# Altium footprint library hsbest3.PcbLib: 363 footprints (part 2 of 23)
Each footprint in its own frame and in the unit in brackets; x right, y up, seen from the top. Pads: shape width x height; smd on the part's side, far side on the other; paste and mask are expansions set on the pad; w line width, h text height; cw(c..) or ccw(c..) is an arc to the next point about the centre after c.
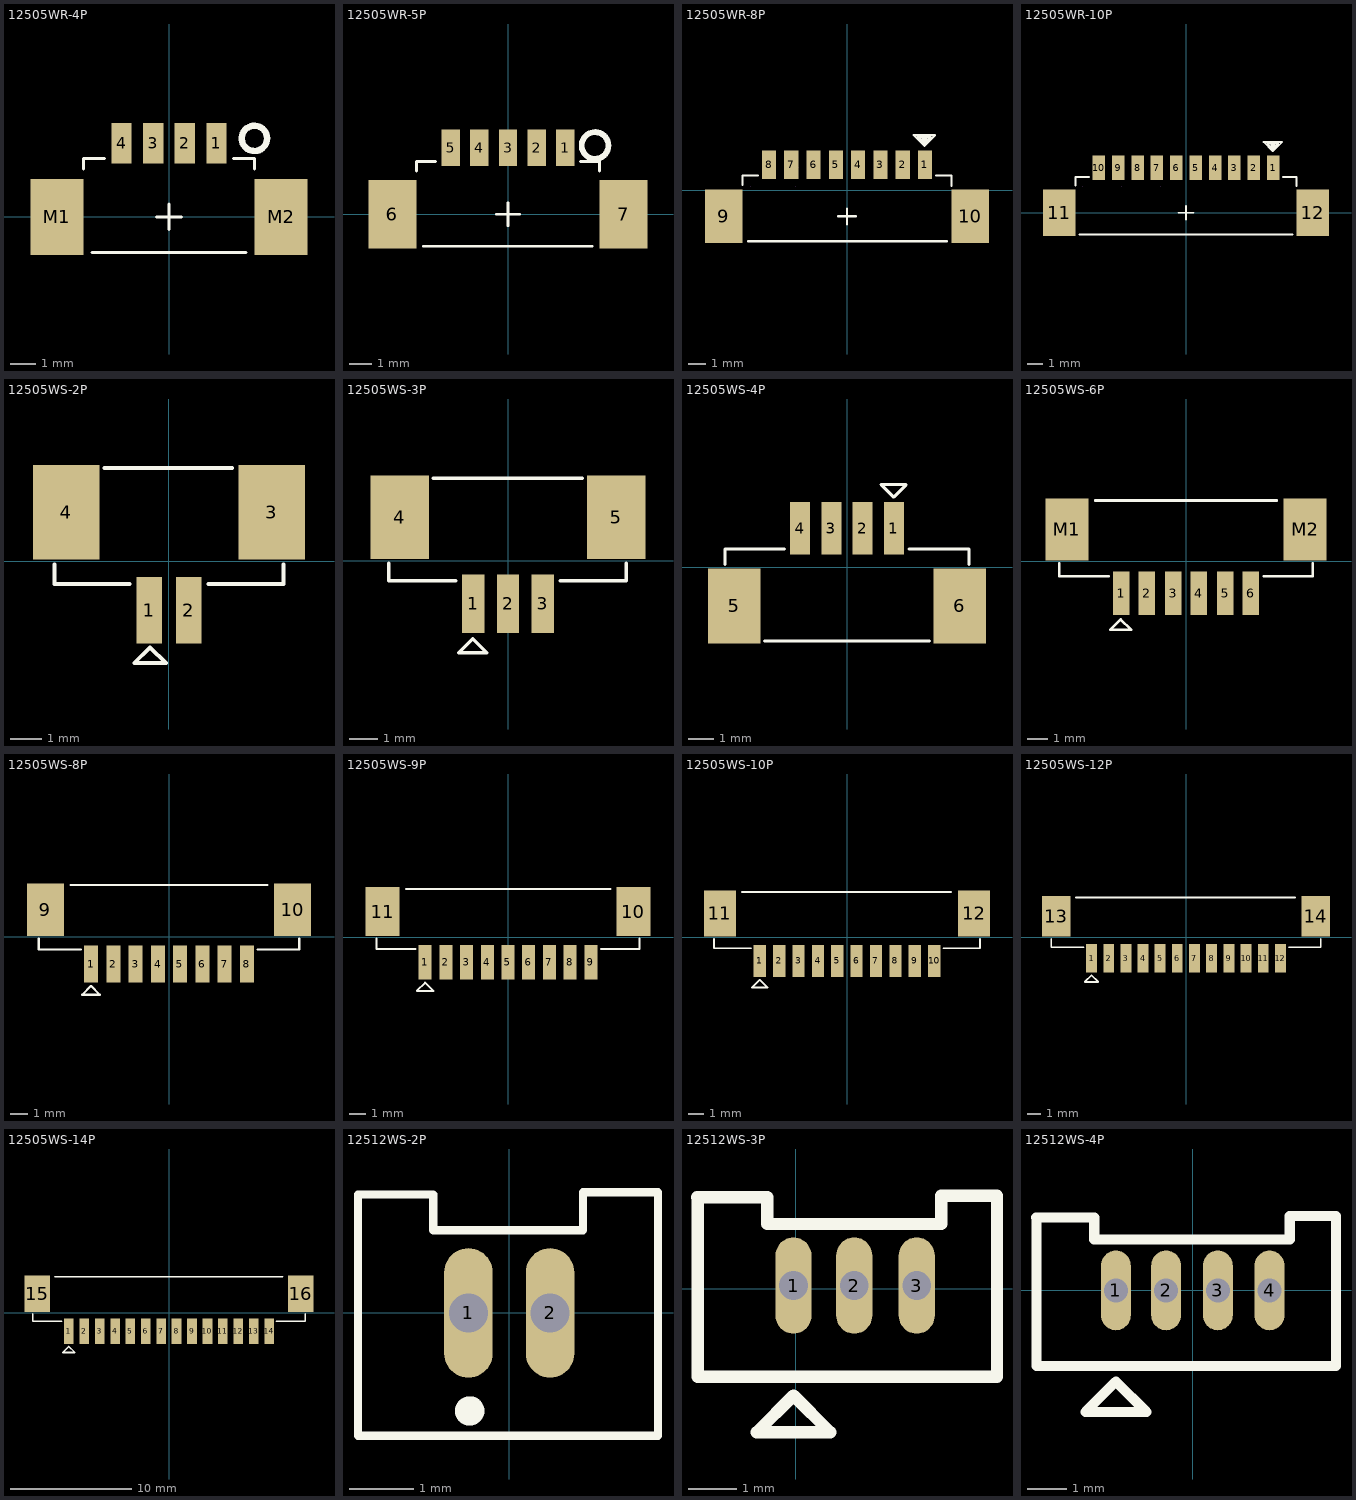
[diagram p1: the footprints below, top view; thin cyan lines are the x and y axes]

## 12505WR-4P [mm]
pads (6):
  rect 0.8x1.6 smd: 1(1.875,2.9) 2(0.625,2.9) 3(-0.625,2.9) 4(-1.875,2.9)
  rect 2.1x3 smd: M1(-4.425,0) M2(4.425,0)
Top Overlay:
  circle w0.254: c3.375,3.1 r0.5
  lines w0.12: -3.375,1.884 -3.375,2.3 -2.54,2.3 ; -3.048,-1.4 3.048,-1.4 ; -0.5,0 0.5,0 ; 0,-0.5 0,0.5 ; 2.54,2.3 3.375,2.3 3.375,1.884

## 12505WR-5P [mm]
pads (7):
  rect 0.8x1.6 smd: 1(2.5,2.9) 2(1.25,2.9) 3(0,2.9) 4(-1.25,2.9) 5(-2.5,2.9)
  rect 2.1x3 smd: 6(-5.05,0) 7(5.05,0)
Top Overlay:
  circle w0.254: c3.8,3 r0.584
  lines w0.12: -4,1.884 -4,2.3 -3.165,2.3 ; -3.7,-1.4 3.673,-1.4 ; -0.5,0 0.5,0 ; 0,-0.5 0,0.5 ; 3.165,2.3 4,2.3 4,1.884

## 12505WR-8P [mm]
pads (10):
  rect 0.8x1.6 smd: 1(4.375,1.45) 2(3.125,1.45) 3(1.875,1.45) 4(0.625,1.45) 5(-0.625,1.45) 6(-1.875,1.45) 7(-3.125,1.45) 8(-4.375,1.45)
  rect 2.1x3 smd: 9(-6.925,-1.45) 10(6.925,-1.45)
Top Overlay:
  lines w0.12: -5.875,0.307 -5.875,0.85 -5,0.85 ; -5.568,-2.85 5.626,-2.85 ; -0.508,-1.45 0.508,-1.45 ; 0,-1.905 0,-1.016 ; 5,0.85 5.875,0.85 5.875,0.257 ; 3.75,3.115 4.35,2.515 4.95,3.115 3.75,3.115 ; 4,3.015 4.35,2.665 4.7,3.015 4,3.015 ; 4.25,2.915 4.35,2.815 4.45,2.915 4.25,2.915
Mechanical 1:
  lines w0.025: -5.4,0.25 -5.399,0.25 ; -0.25,1.31 -0.249,1.31 ; -2.9,0.25 -2.899,0.25 ; -2.75,1.31 -2.749,1.31

## 12505WR-10P [mm]
pads (12):
  rect 0.8x1.6 smd: 1(5.625,2.9) 2(4.375,2.9) 3(3.125,2.9) 4(1.875,2.9) 5(0.625,2.9) 6(-0.625,2.9) 7(-1.875,2.9) 8(-3.125,2.9) 9(-4.375,2.9) 10(-5.625,2.9)
  rect 2.1x3 smd: 11(-8.175,0) 12(8.175,0)
Top Overlay:
  lines w0.12: -7.125,1.757 -7.125,2.3 -6.25,2.3 ; -6.876,-1.4 6.876,-1.4 ; -0.5,0 0.5,0 ; 0,-0.455 0,0.434 ; 6.25,2.3 7.125,2.3 7.125,1.707 ; 5,4.565 5.6,3.965 6.2,4.565 5,4.565 ; 5.25,4.465 5.6,4.115 5.95,4.465 5.25,4.465 ; 5.5,4.365 5.6,4.265 5.7,4.365 5.5,4.365
Mechanical 1:
  lines w0.025: -4,2.76 -3.999,2.76 ; 1,2.76 1.001,2.76 ; -6.65,1.7 -6.649,1.7 ; -4.15,1.7 -4.149,1.7 -4.15,1.7 ; -1.65,1.7 -1.649,1.7 ; -1.5,2.76 -1.499,2.76

## 12505WS-2P [mm]
pads (4):
  rect 0.8x2.1 smd: 1(-0.625,-1.55) 2(0.625,-1.55)
  rect 2.1x3 smd: 3(3.25,1.55) 4(-3.25,1.55)
Top Overlay:
  lines w0.125: -3.625,-0.1 -3.625,-0.725 -1.25,-0.725 ; -2.05,2.95 2,2.95 ; 1.25,-0.725 3.625,-0.725 3.625,-0.1 ; -1.1,-3.225 -0.6,-2.725 -0.1,-3.225 -1.1,-3.225

## 12505WS-3P [mm]
pads (5):
  rect 0.8x2.1 smd: 1(-1.25,-1.55) 2(0,-1.55) 3(1.25,-1.55)
  rect 2.1x3 smd: 4(-3.87,1.55) 5(3.87,1.55)
Top Overlay:
  lines w0.125: -4.262,-0.1 -4.262,-0.725 -1.862,-0.725 ; -2.67,2.95 2.662,2.95 ; 1.862,-0.725 4.237,-0.725 4.237,-0.1 ; -1.76,-3.299 -0.76,-3.299 -1.26,-2.799 -1.76,-3.299

## 12505WS-4P [mm]
pads (6):
  rect 0.8x2.1 smd: 1(1.875,1.55) 2(0.625,1.55) 3(-0.625,1.55) 4(-1.875,1.55)
  rect 2.1x3 smd: 5(-4.5,-1.55) 6(4.5,-1.55)
Top Overlay:
  lines w0.125: -4.875,0.1 -4.875,0.725 -2.5,0.725 ; -3.3,-2.95 3.3,-2.95 ; 2.475,0.725 4.875,0.725 4.875,0.1 ; 1.363,3.303 2.363,3.303 1.863,2.803 1.363,3.303

## 12505WS-6P [mm]
pads (8):
  rect 0.8x2.1 smd: 1(-3.145,-1.55) 2(-1.895,-1.55) 3(-0.625,-1.55) 4(0.625,-1.55) 5(1.895,-1.55) 6(3.145,-1.55)
  rect 2.1x3 smd: M1(-5.77,1.55) M2(5.77,1.55)
Top Overlay:
  lines w0.125: -6.145,-0.1 -6.145,-0.725 -3.745,-0.725 ; -4.4,2.95 4.4,2.95 ; 3.77,-0.725 6.145,-0.725 6.145,-0.1 ; -3.664,-3.307 -2.664,-3.307 -3.164,-2.807 -3.664,-3.307

## 12505WS-8P [mm]
pads (10):
  rect 0.8x2.1 smd: 1(-4.435,-1.55) 2(-3.165,-1.55) 3(-1.895,-1.55) 4(-0.625,-1.55) 5(0.625,-1.55) 6(1.895,-1.55) 7(3.165,-1.55) 8(4.435,-1.55)
  rect 2.1x3 smd: 9(-7.04,1.55) 10(7.04,1.55)
Top Overlay:
  lines w0.125: -7.415,-0.1 -7.415,-0.725 -5.015,-0.725 ; -5.6,2.95 5.6,2.95 ; 5.04,-0.725 7.415,-0.725 7.415,-0.1 ; -4.936,-3.288 -4.436,-2.788 -3.936,-3.288 -4.936,-3.288

## 12505WS-9P [mm]
pads (11):
  rect 0.8x2.1 smd: 1(-5.07,-1.55) 2(-3.8,-1.55) 3(-2.53,-1.55) 4(-1.26,-1.55) 5(-0.01,-1.55) 6(1.26,-1.55) 7(2.53,-1.55) 8(3.8,-1.55) 9(5.07,-1.55)
  rect 2.1x3 smd: 10(7.675,1.55) 11(-7.675,1.55)
Top Overlay:
  lines w0.125: -8.05,-0.1 -8.05,-0.725 -5.65,-0.725 ; -6.235,2.95 6.265,2.95 ; 5.675,-0.725 8.05,-0.725 8.05,-0.1 ; -5.571,-3.288 -5.071,-2.788 -4.571,-3.288 -5.571,-3.288

## 12505WS-10P [mm]
pads (12):
  rect 0.8x2.1 smd: 1(-5.705,-1.55) 2(-4.435,-1.55) 3(-3.165,-1.55) 4(-1.895,-1.55) 5(-0.645,-1.55) 6(0.625,-1.55) 7(1.895,-1.55) 8(3.165,-1.55) 9(4.435,-1.55) 10(5.705,-1.55)
  rect 2.1x3 smd: 11(-8.31,1.55) 12(8.31,1.55)
Top Overlay:
  lines w0.125: -8.685,-0.1 -8.685,-0.725 -6.285,-0.725 ; -6.87,2.95 6.805,2.95 ; 6.31,-0.725 8.685,-0.725 8.685,-0.1 ; -6.206,-3.288 -5.206,-3.288 -5.706,-2.788 -6.206,-3.288

## 12505WS-12P [mm]
pads (14):
  rect 0.8x2.1 smd: 1(-6.975,-1.55) 2(-5.705,-1.55) 3(-4.435,-1.55) 4(-3.165,-1.55) 5(-1.915,-1.55) 6(-0.645,-1.55) 7(0.625,-1.55) 8(1.895,-1.55) 9(3.165,-1.55) 10(4.435,-1.55) 11(5.705,-1.55) 12(6.975,-1.55)
  rect 2.1x3 smd: 13(-9.58,1.55) 14(9.58,1.55)
Top Overlay:
  lines w0.125: -9.955,-0.1 -9.955,-0.725 -7.555,-0.725 ; -8.14,2.95 8.08,2.95 ; 7.58,-0.725 9.955,-0.725 9.955,-0.1 ; -7.476,-3.288 -6.976,-2.788 -6.476,-3.288 -7.476,-3.288

## 12505WS-14P [mm]
pads (16):
  rect 0.8x2.1 smd: 1(-8.245,-1.55) 2(-6.975,-1.55) 3(-5.705,-1.55) 4(-4.435,-1.55) 5(-3.185,-1.55) 6(-1.915,-1.55) 7(-0.645,-1.55) 8(0.625,-1.55) 9(1.895,-1.55) 10(3.165,-1.55) 11(4.435,-1.55) 12(5.705,-1.55) 13(6.975,-1.55) 14(8.245,-1.55)
  rect 2.1x3 smd: 15(-10.85,1.55) 16(10.85,1.55)
Top Overlay:
  lines w0.125: -11.225,-0.1 -11.225,-0.725 -8.825,-0.725 ; -9.41,2.95 9.36,2.95 ; 8.85,-0.725 11.225,-0.725 11.225,-0.1 ; -8.746,-3.288 -7.746,-3.288 -8.246,-2.788 -8.746,-3.288

## 12512WS-2P [mm]
pads (2):
  oval 0.75x2 hole 0.6: 1(-0.63,0) 2(0.63,0)
Top Overlay:
  circle w0.254: c-0.612,-1.514 r0.1
  lines w0.127: 2.288,-1.897 -2.337,-1.897 -2.337,1.832 -1.174,1.832 -1.174,1.277 1.138,1.277 1.139,1.865 2.298,1.865 2.298,-1.897

## 12512WS-3P [mm]
pads (3):
  oval 0.75x2 hole 0.6: 1(-0.043,0.064) 2(1.217,0.064) 3(2.515,0.064)
Top Overlay:
  lines w0.254: -2.048,1.895 -0.587,1.895 -0.587,1.341 3.024,1.341 3.024,1.929 4.183,1.929 4.183,-1.833 -2.031,-1.833 -2.031,1.878 ; -0.805,-2.984 0.719,-2.984 -0.043,-2.222 -0.805,-2.984

## 12512WS-4P [mm]
pads (4):
  oval 0.75x2 hole 0.6: 1(-1.928,0) 2(-0.668,0) 3(0.63,0) 4(1.928,0)
Top Overlay:
  lines w0.254: -3.933,1.832 -2.472,1.832 -2.472,1.277 2.437,1.277 2.437,1.865 3.596,1.865 3.596,-1.897 -3.916,-1.897 -3.916,1.815 ; -2.69,-3.048 -1.928,-2.286 -1.166,-3.048 -2.69,-3.048